# Altium footprint library PcbLib1.PcbLib: 4 footprints
Each footprint in its own frame and in the unit in brackets; x right, y up, seen from the top. Pads: shape width x height; smd on the part's side, far side on the other; paste and mask are expansions set on the pad; w line width, h text height; cw(c..) or ccw(c..) is an arc to the next point about the centre after c.
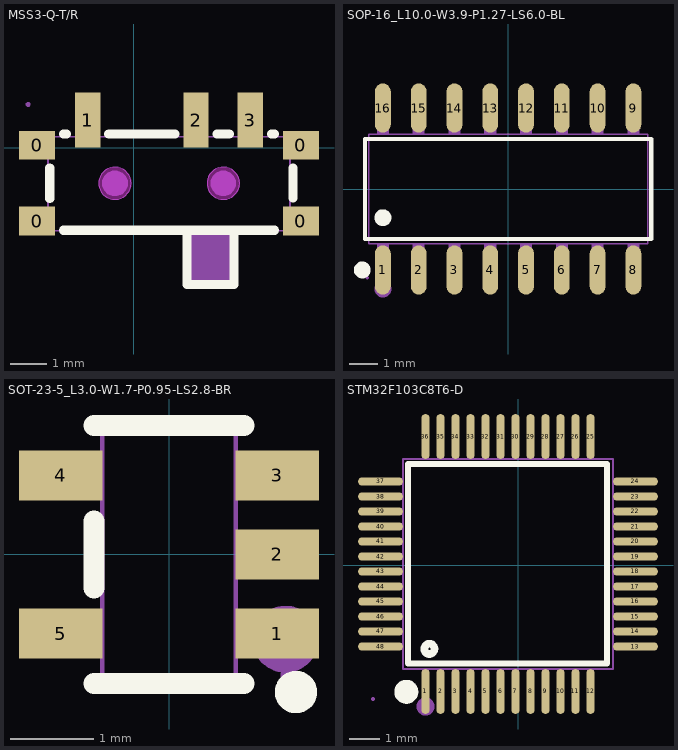
[diagram p0: the footprints below, top view; thin cyan lines are the x and y axes]

## MSS3-Q-T/R [mil]
pads (7):
  rect 39.4x31.5 smd mask+2: 0(-105.3,-79.9) 0(-105.3,2.8) 0(182.1,-79.9) 0(182.1,2.8)
  rect 27.6x60 smd mask+2: 1(-50.2,30.3) 2(67.9,30.3) 3(127,30.3)
Top Overlay:
  lines w10: -91.6,-55.1 -91.6,-22.1 ; -76.6,-89.8 153.3,-89.8 ; -76.6,15.2 -73.1,15.2 ; -27.3,15.2 45,15.2 ; 90.8,15.2 104.1,15.2 ; 149.9,15.2 153.4,15.2 ; 173.4,-54.8 173.4,-22.1 ; 58.1,-148.9 109.3,-148.9 109.3,-89.8 58.1,-89.8 58.1,-148.9
Keep-Out Layer:
  board cut-out: -2.9,-38.6 -2.9,-35.08 -5.59,-28.57 -10.57,-23.59 -17.08,-20.9 -24.12,-20.9 -30.63,-23.59 -35.61,-28.57 -38.3,-35.08 -38.3,-38.6 -38.3,-42.12 -35.61,-48.63 -30.63,-53.61 -24.12,-56.3 -17.08,-56.3 -10.57,-53.61 -5.59,-48.63 -2.9,-42.12
  board cut-out: 115.2,-38.6 115.2,-35.08 112.51,-28.57 107.53,-23.59 101.02,-20.9 93.98,-20.9 87.47,-23.59 82.49,-28.57 79.8,-35.08 79.8,-38.6 79.8,-42.12 82.49,-48.63 87.47,-53.61 93.98,-56.3 101.02,-56.3 107.53,-53.61 112.51,-48.63 115.2,-42.12
Mechanical 1:
  circle w0.2: c-20.6,-38.6 r17.7
  circle w0.2: c97.5,-38.6 r17.7
Mechanical 6:
  region: 57.3,-95.3 110.8,-95.3 110.8,-150 57.7,-150
Mechanical 15:
  region: -112.7,47.3 -112.7,48.29 -114.11,49.7 -116.09,49.7 -117.5,48.29 -117.5,47.3 -117.5,46.31 -116.09,44.9 -114.11,44.9 -112.7,46.31
  region: -6.8,-38.6 -6.8,-35.85 -8.9,-30.78 -12.78,-26.9 -17.86,-24.8 -23.34,-24.8 -28.42,-26.9 -32.3,-30.78 -34.4,-35.85 -34.4,-38.6 -34.4,-41.34 -32.3,-46.42 -28.42,-50.3 -23.34,-52.4 -17.86,-52.4 -12.78,-50.3 -8.9,-46.42 -6.8,-41.34
  region: 111.3,-38.6 111.3,-35.85 109.2,-30.78 105.32,-26.9 100.24,-24.8 94.75,-24.8 89.68,-26.9 85.8,-30.78 83.7,-35.85 83.7,-38.6 83.7,-41.34 85.8,-46.42 89.68,-50.3 94.75,-52.4 100.24,-52.4 105.32,-50.3 109.2,-46.42 111.3,-41.34
  region: -58.1,47.2 -42.3,47.2 -42.3,11.8 -58.1,11.8
  region: 60.1,47.2 75.8,47.2 75.8,11.8 60.1,11.8
  region: 119.1,47.2 134.9,47.2 134.9,11.8 119.1,11.8
  region: -115.1,10.6 -95.5,10.6 -95.5,-5.1 -115.1,-5.1
  region: -115.1,-72 -95.5,-72 -95.5,-87.8 -115.1,-87.8
  region: 172.3,10.6 191.9,10.6 191.9,-5.1 172.3,-5.1
  region: 172.3,-72 191.9,-72 191.9,-87.8 172.3,-87.8
  region: -95.9,-72 -95.9,-87.8 -92.3,-87.8 -92.3,-72
  region: 172.7,-87.8 172.7,-72 169.1,-72 169.1,-87.8
  region: 172.6,-5.1 172.6,10.6 169.1,10.6 169.1,-5.1
  region: -95.8,10.6 -95.8,-5.1 -92.3,-5.1 -92.3,10.6
  lines w2: -93.5,-90.3 -93.5,12.1 170.3,12.1 170.3,-90.3 107.3,-90.2 107.3,-149.2 58.1,-149.2 58.5,-90.2 -93.5,-90.3

## SOP-16_L10.0-W3.9-P1.27-LS6.0-BL [mm]
pads (16):
  oval 0.56x1.745 smd mask+0.051: 1(-4.445,-2.872) 2(-3.175,-2.872) 3(-1.905,-2.872) 4(-0.635,-2.872) 5(0.635,-2.872) 6(1.905,-2.872) 7(3.175,-2.872) 8(4.445,-2.872) 9(4.445,2.872) 10(3.175,2.872) 11(1.905,2.872) 12(0.635,2.872) 13(-0.635,2.872) 14(-1.905,2.872) 15(-3.175,2.872) 16(-4.445,2.872)
Top Overlay:
  circle w0.3: c-5.177,-2.872 r0.15
  circle w0.3: c-4.445,-1.019 r0.15
  lines w0.152: -5.076,-1.771 5.076,-1.771 5.076,1.771 -5.076,1.771 -5.076,-1.771
Mechanical 6:
  circle w0.3: c-4.445,-3.55 r0.15
Mechanical 15:
  drawing of 37 lines, arcs and shapes, not listed

## SOT-23-5_L3.0-W1.7-P0.95-LS2.8-BR [mm]
pads (5):
  rect 1x0.6 smd mask+0.051: 1(1.3,-0.95) 2(1.3,0) 3(1.3,0.95) 4(-1.3,0.95) 5(-1.3,-0.95)
Top Overlay:
  circle w0.254: c1.524,-1.651 r0.127
  lines w0.254: -0.9,-1.55 0.9,-1.55 ; -0.9,-0.4 -0.9,0.4 ; -0.9,1.55 0.9,1.55
Mechanical 6:
  circle w0.4: c1.397,-1.016 r0.2
Mechanical 15:
  region: -1.4,-1.15 -1.4,-0.75 -0.95,-0.75 -0.95,-1.15
  region: -0.96,-1.15 -0.96,-0.75 -0.79,-0.75 -0.79,-1.15
  region: -1.4,0.75 -1.4,1.15 -0.95,1.15 -0.95,0.75
  region: -0.96,0.75 -0.96,1.15 -0.79,1.15 -0.79,0.75
  region: 0.95,0.75 0.95,1.15 1.4,1.15 1.4,0.75
  region: 0.79,0.75 0.79,1.15 0.96,1.15 0.96,0.75
  region: 0.95,-0.2 0.95,0.2 1.4,0.2 1.4,-0.2
  region: 0.79,-0.2 0.79,0.2 0.96,0.2 0.96,-0.2
  region: 0.95,-1.15 0.95,-0.75 1.4,-0.75 1.4,-1.15
  region: 0.79,-1.15 0.79,-0.75 0.96,-0.75 0.96,-1.15
  region: 1.46,-1.45 1.46,-1.425 1.425,-1.39 1.375,-1.39 1.34,-1.425 1.34,-1.45 1.34,-1.475 1.375,-1.51 1.425,-1.51 1.46,-1.475 1.46,-1.45
  lines w0.051: -0.8,-1.45 -0.8,1.45 0.8,1.45 0.8,-1.45 -0.8,-1.45

## STM32F103C8T6-D [mm]
pads (48):
  oval 0.27x1.5 smd mask+0.05: 1(-3.084,-4.203) 2(-2.584,-4.203) 3(-2.084,-4.203) 4(-1.584,-4.203) 5(-1.084,-4.203) 6(-0.584,-4.203) 7(-0.084,-4.203) 8(0.416,-4.203) 9(0.916,-4.203) 10(1.416,-4.203) 11(1.916,-4.203) 12(2.416,-4.203) 25(2.416,4.297) 26(1.916,4.297) 27(1.416,4.297) 28(0.916,4.297) 29(0.416,4.297) 30(-0.084,4.297) 31(-0.584,4.297) 32(-1.084,4.297) 33(-1.584,4.297) 34(-2.084,4.297) 35(-2.584,4.297) 36(-3.084,4.297)
  oval 1.5x0.27 smd mask+0.05: 13(3.916,-2.703) 14(3.916,-2.203) 15(3.916,-1.703) 16(3.916,-1.203) 17(3.916,-0.703) 18(3.916,-0.203) 19(3.916,0.297) 20(3.916,0.797) 21(3.916,1.297) 22(3.916,1.797) 23(3.916,2.297) 24(3.916,2.797) 37(-4.584,2.797) 38(-4.584,2.297) 39(-4.584,1.797) 40(-4.584,1.297) 41(-4.584,0.797) 42(-4.584,0.297) 43(-4.584,-0.203) 44(-4.584,-0.703) 45(-4.584,-1.203) 46(-4.584,-1.703) 47(-4.584,-2.203) 48(-4.584,-2.703)
Top Overlay:
  circle w0.254: c-2.954,-2.783 r0.17
  lines w0.2: -3.23,3.387 2.968,3.387 2.968,-3.268 -3.661,-3.268 -3.661,3.387 -2.899,3.387
  lines w0.4: -3.724,-4.013 ccw(c-3.723,-4.213) -3.722,-4.013
Mechanical 6:
  circle w0.3: c-3.084,-4.703 r0.15
Mechanical 15:
  drawing of 101 lines, arcs and shapes, not listed